# EAGLE library part ADUM1250 (library omc)
ADUM1250 - Hot Swappable, Dual I2C Isolators - Bidirectional I2C communication - Open-drain interfaces - 3.0 V to 5.5 V supply/logic levels
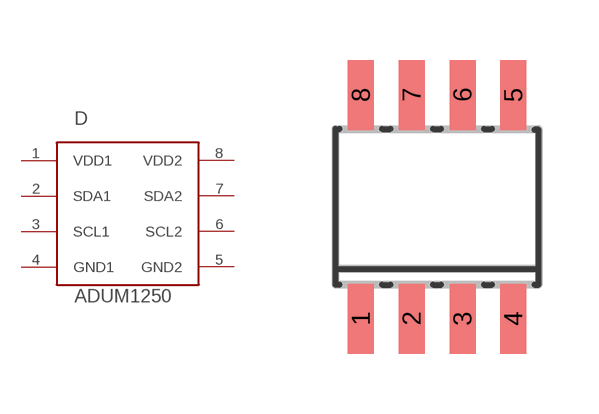
[diagram p5: symbol with the pads of SO8; footprint SO8]

Designator prefix D

## ADUM1250  [SO8]
1  VDD1  pwr
2  SDA1
3  SCL1
4  GND1  pwr
5  GND2  pwr
6  SCL2
7  SDA2
8  VDD2  pwr

## Footprint SO8 (pad centres in mm)
Complient to the IPC7351 standard (SOIC127P600X175-8M)
smd 0.65 x 1.75: 1 -1.905,-2.8; 2 -0.635,-2.8; 3 0.635,-2.8; 4 1.905,-2.8; 5 1.905,2.8; 6 0.635,2.8; 7 -0.635,2.8; 8 -1.905,2.8